# Altium schematic symbol library Shunt.SchLib: 4 symbols
Pins are listed as number, name and electrical type; pins without a type are passive.

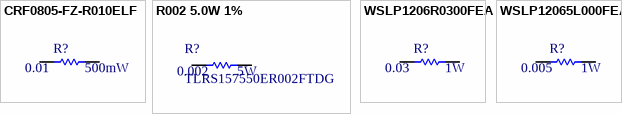
[diagram p0: symbols CRF0805-FZ-R010ELF to WSLP12065L000FEA]

## CRF0805-FZ-R010ELF
designator R?  value 0.01  Power: 500mW  (hidden comment: CRF0805-FZ-R010ELF)
RES 0.01 OHM 1% 500mW 0805; Manufacturer: Bourns; Vmax: 200V; Type: Thick film; Manufacturer Part Number: CRF0805-FZ-R010ELF; Precision: ±1%; ComponentLink1URL: https://www.bourns.com/docs/Product-Datasheets/CRF.pdf; ComponentLink1Description: Manufacturer; ComponentLink2URL: http://www.farnell.com/datasheets/1970564.pdf; ComponentLink2Description: Datasheet; Supplier 1: Farnell; Supplier Part Number 1: 2372977
footprint RESC2012X06N (Chip Resistor, 2-Leads, Body 2,0x1,3mm, IPC Medium Density)
pins: 1, 2

## R002 5.0W 1%
designator R?, comment TLRS157550ER002FTDG  value 0.002  Power: 5W
RES 0.002 OHM 1%  5W 1575; Manufacturer: TE CONNECTIVITY; Supplier 1: Farnell; Supplier Part Number 1: 2116043; Manufacturer Part Number: TLRS157550ER002FTDG; ComponentLink1URL: http://www.farnell.com/datasheets/1751344.pdf; ComponentLink1Description: http://www.farnell.com/datasheets/1751344.pdf
footprint TLRS1575 (TLRS Series)
pins: 1, 2

## WSLP1206R0300FEA
designator R?  value 0.03  Power: 1W  (hidden comment: WSLP1206R0300FEA)
RES 0.03 OHM 1% 1W 1206; Manufacturer: Vishay Dale; Vmax: 200V; Type: Metal Strip; Precision: ±1%; ComponentLink1Description: http://www.vishay.com/docs/30122/wslp.pdf; Manufacturer Part Number: WSLP1206R0300FEA; ComponentLink1URL: http://www.vishay.com/docs/30122/wslp.pdf; Tolerance: ±1%; Supplier 1: Farnell; Supplier Part Number 1: 1886671
footprint WSLP1206 (Shunt Resistor, 2-Leads, Body 3,2x1,6mm, (from IPC Medium Density))
pins: 1, 2

## WSLP12065L000FEA
designator R?  value 0.005  Power: 1W  (hidden comment: WSLP12065L000FEA)
RES 0.005 OHM 1% 1W 1206; Manufacturer: Vishay Dale; Vmax: 200V; Type: Metal Strip; Manufacturer Part Number: WSLP12065L000FEA; Precision: ±1%; Supplier 1: Farnell; ComponentLink1URL: https://www.vishay.com/product?docid=30122; ComponentLink1Description: Manufacturer; ComponentLink2URL: http://www.farnell.com/datasheets/2182713.pdf; ComponentLink2Description: Datasheet; Supplier Part Number 1: 2420761
footprint WSLP1206 (Shunt Resistor, 2-Leads, Body 3,2x1,6mm, (from IPC Medium Density))
pins: 1, 2